# EAGLE library part LFB182G45BG2D280 (library Jordi)
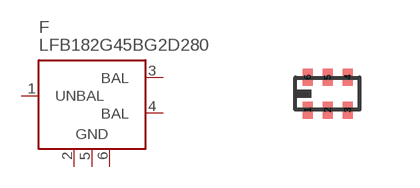
[diagram p27: symbol with the pads of LFB182G45BG2D280; footprint LFB182G45BG2D280]

Designator prefix F

## LFB182G45BG2D280SMD  [LFB182G45BG2D280]
1  UNBAL  in
2  GND  pwr
3  BAL  out
4  BAL  out
5  GND  pwr
6  GND  pwr

## Footprint LFB182G45BG2D280 (pad centres in mm)
Murata 2.45 GHz Impedance Matched Balun-Filter For TI CC253X/CC254X family Data sheet <http://www.mouser.com/ds/2/281/DM-5400-01A_LFB182G45BG2D280-202913.pdf> Application Note <http://www.ti.com/lit/an/swra380a/swra380a.pdf>
smd 0.25 x 0.425: 1 -0.5,-0.412; 2 0,-0.412; 3 0.5,-0.412; 4 0.5,0.412; 5 0,0.412; 6 -0.5,0.412